# EAGLE library part LP3883* (library oli)
3A Fast-Response Ultra Low Dropout Linear Regulators General Description The LP3883 is a high-current, fast-response regulator which can maintain output voltage regulation with minimum input to output voltage drop. Fabricated on a CMOS process, the device operates from two input voltages: Vbias provides voltage to drive the gate of the N-MOS power transistor, while Vin is the input voltage which supplies power to the load. The use of an external bias rail allows the part to operate from ultra low Vin voltages. Unlike bipolar regulators, the CMOS architecture consumes extremely low quiescent current at any output load current. The use of an N-MOS power transistor results in wide bandwidth, yet minimum external capacitance is required to maintain loop stability. The fast transient response of these devices makes them suitable for use in powering DSP, Microcontroller Core voltages and Switch Mode Power Supply post regulators. The parts are available in TO-220 and TO-263 packages. Dropout Voltage: 210 mV (typ) @ 3A load current. Ground Pin Current: 3 mA (typ) at full load. Shutdown Current: 60 nA (typ) when S/D pin is low. Precision Output Voltage: 1.5% room temperature accuracy. Features Ultra low dropout voltage (210 mV @ 3A typ) Low ground pin current Load regulation of 0.04%/A 60 nA typical quiescent current in shutdown 1.5% output accuracy (25°C) TO-220, TO-263 packages Over temperature/over current protection -40°C to +125°C junction temperature range Applications DSP Power Supplies Server Core and I/O Supplies Linear Power Supplies for PC Add-in-Cards Set-Top Box Power Supplies Microprocessor Power Supplies High Efficiency Linear Power Supplies SMPS Post-Regulators
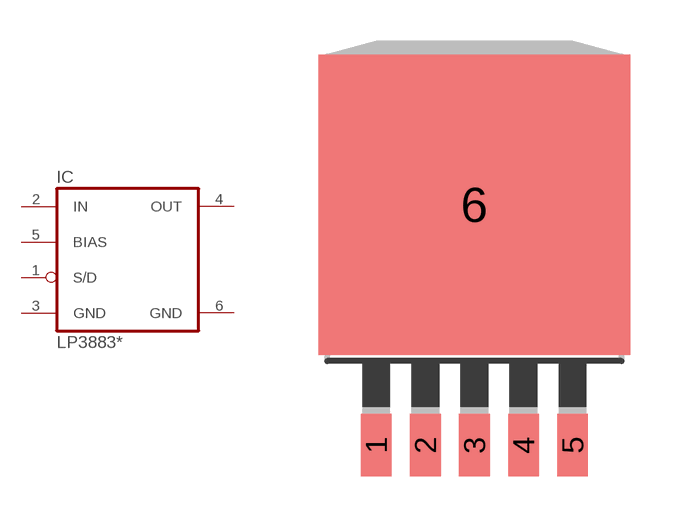
[diagram p6: symbol with the pads of TO263-5; footprint TO263-5]

Designator prefix IC

## LP3883-1.2, LP3883-1.5, LP3883-1.8  [TO263-5]
1  S/D  in
2  IN  pwr
3  GND  pwr
4  OUT  pwr
5  BIAS  in
6  GND  pwr

## Footprint TO263-5 (pad centres in mm)
TO-263
smd 1.067 x 2.159: 1 -3.404,-5.791; 2 -1.702,-5.791; 3 0,-5.791; 4 1.702,-5.791; 5 3.404,-5.791
smd 10.8 x 10.41: 6 0,2.54